# EAGLE library part LM393P (library other)
LM393P, Dual Comparator Open Collector 1.3s 12 V, 15 V, 18 V, 24 V, 28 V, 3 V, 5 V, 9 V 8-Pin PDIP Source: Datasheet <http://www.ti.com/lit/ds/symlink/lm393.pdf>
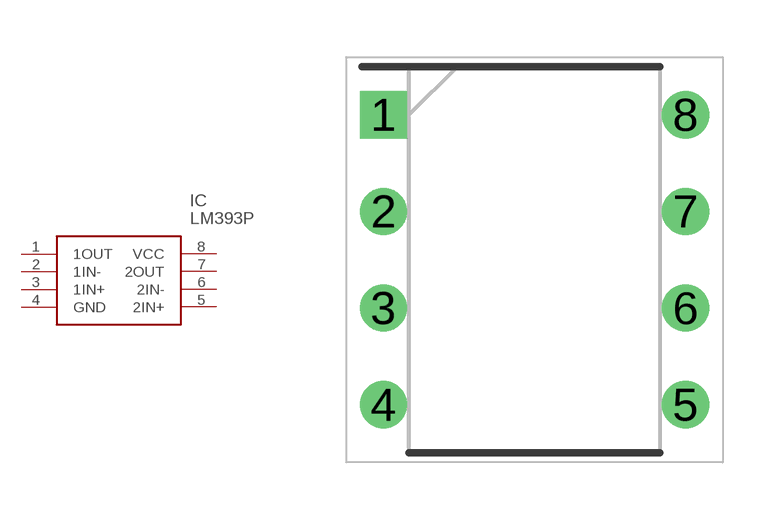
[diagram p5: symbol with the pads of DIP794W53P254L959H508Q8N; footprint DIP794W53P254L959H508Q8N]

Designator prefix IC

## LM393P (ARROW_PART_NUMBER: LM393P; ARROW_PRICE/STOCK: https://www.arrow.com/en/products/lm393p/texas-instruments; DESCRIPTION: LM393P, Dual Comparator Open Collector 1.3s 12 V, 15 V, 18 V, 24 V, 28 V, 3 V, 5 V, 9 V 8-Pin PDIP; HEIGHT: 5.08mm; MANUFACTURER_NAME: Texas Instruments; MANUFACTURER_PART_NUMBER: LM393P; RS_PART_NUMBER: 0810239; RS_PRICE/STOCK: http://uk.rs-online.com/web/p/products/0810239)  [DIP794W53P254L959H508Q8N]
1  1OUT  out
2  1IN-  in
3  1IN+  in
4  GND  pwr
5  2IN+  in
6  2IN-  in
7  2OUT  out
8  VCC  pwr

## Footprint DIP794W53P254L959H508Q8N (pad centres in mm)
P (R-PDIP-T8)
drill 0.73 pad 1.13 square: 1 -3.97,3.81
drill 0.73 pad 1.13: 2 -3.97,1.27; 3 -3.97,-1.27; 4 -3.97,-3.81; 5 3.97,-3.81; 6 3.97,-1.27; 7 3.97,1.27; 8 3.97,3.81